# EAGLE library part IC-LPC81X-16 (library mylib)
LPC81X microcontroller
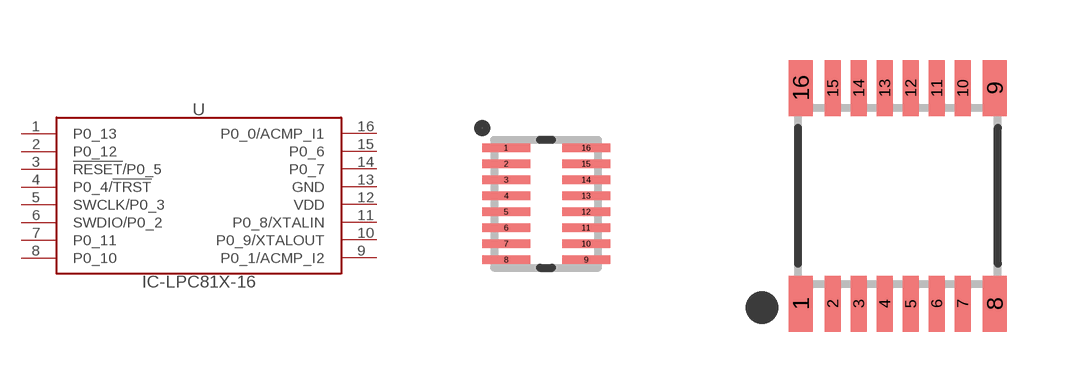
[diagram p115: symbol with the pads of XSON16-0.4P3.2X2.5; footprints XSON16-0.4P3.2X2.5, SOT65P510X450X110-16N]

Designator prefix U

## IC-LPC81X-16-JTB16 (DIGIKEY: 568-11574-1-ND)  [XSON16-0.4P3.2X2.5]
1  P0_13
2  P0_12
3  !RESET!/P0_5
4  P0_4/!TRST!
5  SWCLK/P0_3
6  SWDIO/P0_2
7  P0_11
8  P0_10
9  P0_1/ACMP_I2
10  P0_9/XTALOUT
11  P0_8/XTALIN
12  VDD  pwr
13  GND  pwr
14  P0_7
15  P0_6
16  P0_0/ACMP_I1

## IC-LPC81X-16-JDH16 (DIGIKEY: 568-10436-5-ND; SMD-PAD: 16)  [SOT65P510X450X110-16N]
Pads as for XSON16-0.4P3.2X2.5

## Footprint XSON16-0.4P3.2X2.5 (pad centres in mm)
smd 1.2 x 0.22: 1 -1,1.4; 2 -1,1; 3 -1,0.6; 4 -1,0.2; 5 -1,-0.2; 6 -1,-0.6; 7 -1,-1; 8 -1,-1.4; 9 1,-1.4; 10 1,-1; 11 1,-0.6; 12 1,-0.2; 13 1,0.2; 14 1,0.6; 15 1,1; 16 1,1.4

## Footprint SOT65P510X450X110-16N (pad centres in mm)
smd 0.6 x 1.4: 1 -2.425,-2.7; 8 2.425,-2.7; 9 2.425,2.7; 16 -2.425,2.7
smd 0.4 x 1.4: 2 -1.625,-2.7; 3 -0.975,-2.7; 4 -0.325,-2.7; 5 0.325,-2.7; 6 0.975,-2.7; 7 1.625,-2.7; 10 1.625,2.7; 11 0.975,2.7; 12 0.325,2.7; 13 -0.325,2.7; 14 -0.975,2.7; 15 -1.625,2.7